# Altium schematic symbol library SHARP-LH28F320S3HNS-ZM.schlib: 1 symbol
Pins are listed as number, name and electrical type; pins without a type are passive.

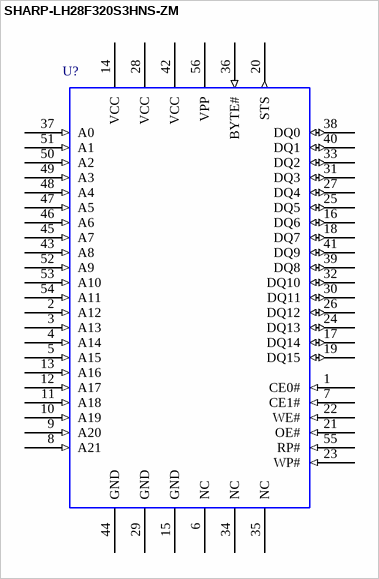
[diagram p0: symbol SHARP-LH28F320S3HNS-ZM]

## SHARP-LH28F320S3HNS-ZM
designator U?  (value not drawn)
Flash Memory 32Mbit (4Mbitx8/2Mbitx16); CircuitryPartsPN: SHARP-LH28F320S3HNS-ZM; ManufacturerPN: LH28F320S3HNS-ZM; Manufacturer: Sharp Microelectronics; CategoryI: Integrated Circuits (ICs); SchematicRev: A; DesignedBy: Circuitry Parts; MfgURL: http://www.sharpsma.com/; PackageName: SSOP56; FootprintName: *; CategoryII: Memory; Value: *; DesignedOn: 7/19/2005 11:03:48 AM
pins: 1 CE0# (in), 2 A12 (in), 3 A13 (in), 4 A14 (in), 5 A15 (in), 6 NC, 7 CE1# (in), 8 A21 (in), 9 A20 (in), 10 A19 (in), 11 A18 (in), 12 A17 (in), 13 A16 (in), 14 VCC (power), 15 GND (power), 16 DQ6 (io), 17 DQ14 (io), 18 DQ7 (io), 19 DQ15 (io), 20 STS (out), 21 OE# (in), 22 WE# (in), 23 WP# (in), 24 DQ13 (io), 25 DQ5 (io), 26 DQ12 (io), 27 DQ4 (io), 28 VCC (power), 29 GND (power), 30 DQ11 (io), 31 DQ3 (io), 32 DQ10 (io), 33 DQ2 (io), 34 NC, 35 NC, 36 BYTE# (in), 37 A0 (in), 38 DQ0 (io), 39 DQ8 (io), 40 DQ1 (io), 41 DQ9 (io), 42 VCC (power), 43 A8 (in), 44 GND (power), 45 A7 (in), 46 A6 (in), 47 A5 (in), 48 A4 (in), 49 A3 (in), 50 A2 (in), 51 A1 (in), 52 A9 (in), 53 A10 (in), 54 A11 (in), 55 RP# (in), 56 VPP (power)